# EAGLE library part 177984-1 (library JLB6_Connec)
AMP Embase male 40 pts Pas 0.8mm
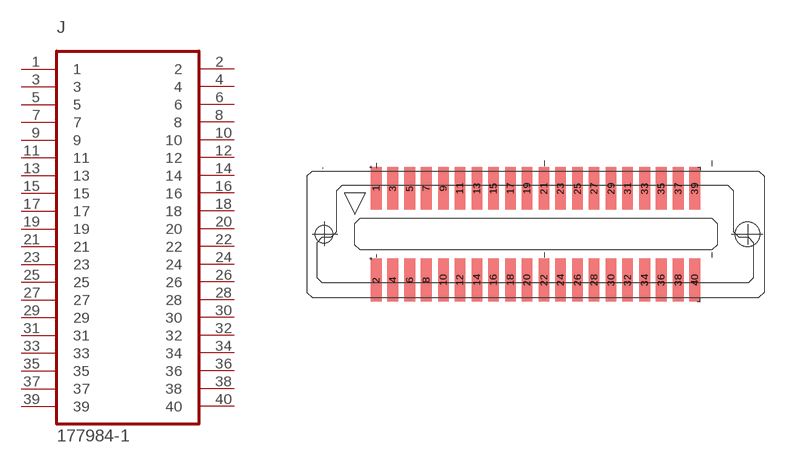
[diagram p7: symbol with the pads of 177984-1; footprint 177984-1]

Designator prefix J

## 177984-1  [177984-1]
1  1
2  2
3  3
4  4
5  5
6  6
7  7
8  8
9  9
10  10
11  11
12  12
13  13
14  14
15  15
16  16
17  17
18  18
19  19
20  20
21  21
22  22
23  23
24  24
25  25
26  26
27  27
28  28
29  29
30  30
31  31
32  32
33  33
34  34
35  35
36  36
37  37
38  38
39  39
40  40

## Footprint 177984-1 (pad centres in mm)
smd 0.508 x 2.032: 1 -7.595,2.184; 2 -7.595,-2.184; 3 -6.807,2.184; 4 -6.807,-2.184; 5 -5.994,2.184; 6 -5.994,-2.184; 7 -5.207,2.184; 8 -5.207,-2.184; 9 -4.394,2.184; 10 -4.394,-2.184; 11 -3.607,2.184; 12 -3.607,-2.184; 13 -2.794,2.184; 14 -2.794,-2.184; 15 -2.007,2.184; 16 -2.007,-2.184; 17 -1.194,2.184; 18 -1.194,-2.184; 19 -0.406,2.184; 20 -0.406,-2.184; 21 0.406,2.184; 22 0.406,-2.184; 23 1.194,2.184; 24 1.194,-2.184; 25 2.007,2.184; 26 2.007,-2.184; 27 2.794,2.184; 28 2.794,-2.184; 29 3.607,2.184; 30 3.607,-2.184; 31 4.394,2.184; 32 4.394,-2.184; 33 5.207,2.184; 34 5.207,-2.184; 35 5.994,2.184; 36 5.994,-2.184; 37 6.807,2.184; 38 6.807,-2.184; 39 7.595,2.184; 40 7.595,-2.184
hole 0.813 at -10.084,0
hole 1.168 at 10.109,0